# Altium schematic symbol library TPS74901RGW.SchLib: 1 symbol
Pins are listed as number, name and electrical type; pins without a type are passive.

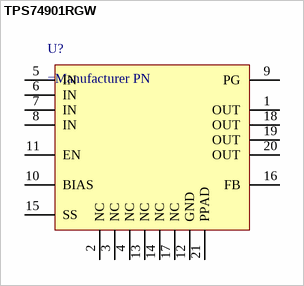
[diagram p0: symbol TPS74901RGW]

## TPS74901RGW
designator U?
20-pin version Linear Regulator Pos Adj 3A
pins: 1 OUT, 2 NC, 3 NC, 4 NC, 5 IN, 6 IN, 7 IN, 8 IN, 9 PG, 10 BIAS, 11 EN, 12 GND, 13 NC, 14 NC, 15 SS, 16 FB, 17 NC, 18 OUT, 19 OUT, 20 OUT, 21 PPAD